# Altium schematic symbol library BQ21062YFPR.SchLib: 1 symbol
Pins are listed as number, name and electrical type; pins without a type are passive.

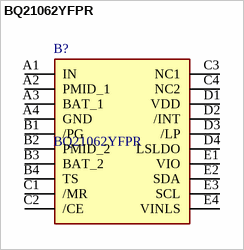
[diagram p0: symbol BQ21062YFPR]

## BQ21062YFPR
designator B?
Battery Management 500-mA 1-cell linear charger with 10-nA ship mode, power-path, regulated system voltage and LDO; Manufacturer_Name: Texas Instruments; Geometry.Height: 0.5mm; Manufacturer_Part_Number: BQ21062YFPR; Mouser Part Number: 595-BQ21062YFPR; Mouser Price/Stock: https://www.mouser.co.uk/ProductDetail/Texas-Instruments/BQ21062YFPR?qs=yqaQSyyJnNgXcFMWqkWYMA%3D%3D; Arrow Part Number: BQ21062YFPR; Arrow Price/Stock: https://www.arrow.com/en/products/bq21062yfpr/texas-instruments?utm_currency=USD&region=nac; Datasheet Link: https://www.ti.com/lit/ds/symlink/bq21062.pdf?ts=1601517026729&ref_url=https%253A%252F%252Fwww.mouser.jp%252F
footprint BGA20C40P4X5_162X202X50
pins: A1 IN, A2 PMID_1, A3 BAT_1, A4 GND, B1 /PG, B2 PMID_2, B3 BAT_2, B4 TS, C1 /MR, C2 /CE, C3 NC1, C4 NC2, D1 VDD, D2 /INT, D3 /LP, D4 LSLDO, E1 VIO, E2 SDA, E3 SCL, E4 VINLS